# EAGLE library part PIC16F914 (library 00_koarl-div)
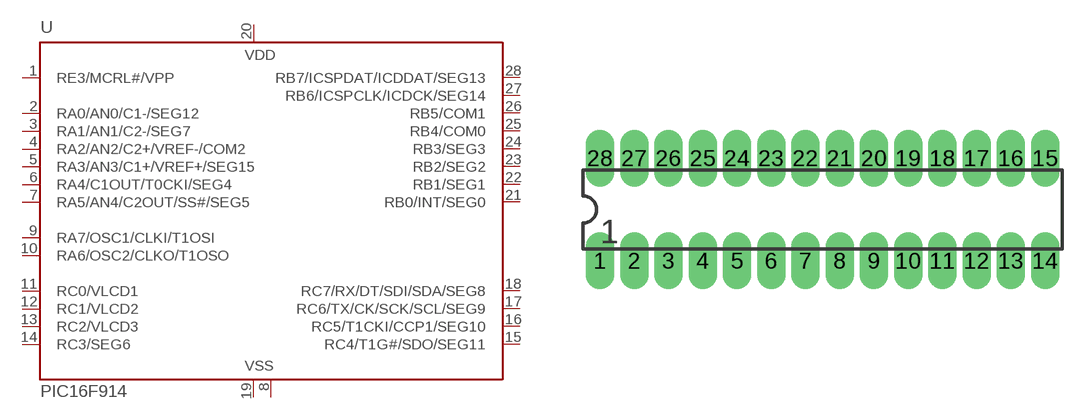
[diagram p12: symbol with the pads of DIL28_PINHOLE; footprint DIL28_PINHOLE]

Designator prefix -

## PIC16F914  [DIL28_PINHOLE]
1  RE3/MCRL#/VPP  in
2  RA0/AN0/C1-/SEG12
3  RA1/AN1/C2-/SEG7
4  RA2/AN2/C2+/VREF-/COM2
5  RA3/AN3/C1+/VREF+/SEG15
6  RA4/C1OUT/T0CKI/SEG4
7  RA5/AN4/C2OUT/SS#/SEG5
8  VSS  pwr
9  RA7/OSC1/CLKI/T1OSI
10  RA6/OSC2/CLKO/T1OSO
11  RC0/VLCD1
12  RC1/VLCD2
13  RC2/VLCD3
14  RC3/SEG6
15  RC4/T1G#/SDO/SEG11
16  RC5/T1CKI/CCP1/SEG10
17  RC6/TX/CK/SCK/SCL/SEG9
18  RC7/RX/DT/SDI/SDA/SEG8
19  VSS  pwr
20  VDD  pwr
21  RB0/INT/SEG0
22  RB1/SEG1
23  RB2/SEG2
24  RB3/SEG3
25  RB4/COM0
26  RB5/COM1
27  RB6/ICSPCLK/ICDCK/SEG14
28  RB7/ICSPDAT/ICDDAT/SEG13

## Footprint DIL28_PINHOLE (pad centres in mm)
Plastic Dual Inline Package with 28 pins
drill 1.4 pad 1.6 long: 1 -16.51,-3.81; 2 -13.97,-3.81; 3 -11.43,-3.81; 4 -8.89,-3.81; 5 -6.35,-3.81; 6 -3.81,-3.81; 7 -1.27,-3.81; 8 1.27,-3.81; 9 3.81,-3.81; 10 6.35,-3.81; 11 8.89,-3.81; 12 11.43,-3.81; 13 13.97,-3.81; 14 16.51,-3.81; 15 16.51,3.81; 16 13.97,3.81; 17 11.43,3.81; 18 8.89,3.81; 19 6.35,3.81; 20 3.81,3.81; 21 1.27,3.81; 22 -1.27,3.81; 23 -3.81,3.81; 24 -6.35,3.81; 25 -8.89,3.81; 26 -11.43,3.81; 27 -13.97,3.81; 28 -16.51,3.81